# Altium schematic symbol library kmilo17pet-LT_OpAmp_LT1000.SchLib: 2280 symbols (part 47 of 79)
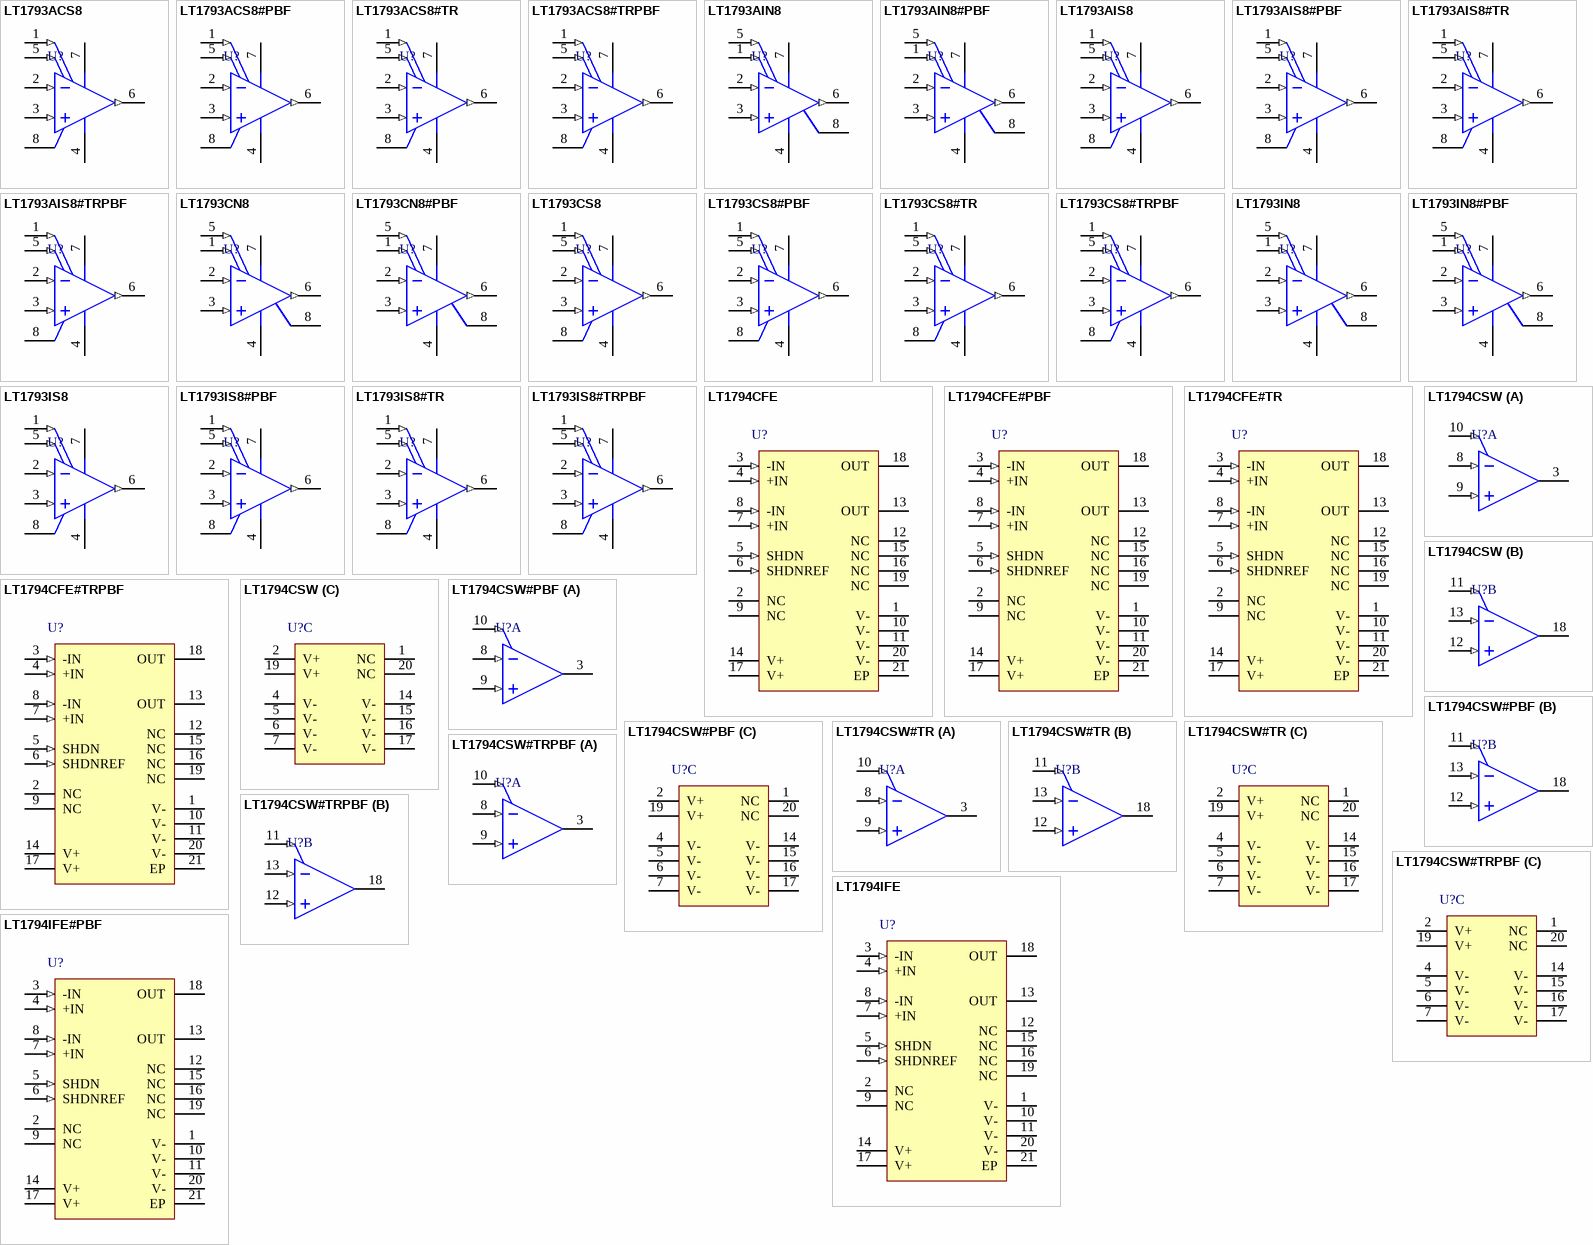
[diagram p151: symbols LT1793ACS8 to LT1794IFE#PBF]

## LT1793AIS8
designator U?
Single Channel, Low Distortion, Low Noise, Precision Operational Amplifier, Picoampere Bias Current, 4.2 MHz Typical GBW, 3.4 V/us Typical SR, 10 to 40 V, 8-Pin SOIC (S8-8), Industrial; Linear Technology Part Number: LT1793; Manufacturer: Linear Technology; PartNumber: LT1793AIS8; Channels (#): 1; GBW (MHz) Typical: 4.2; SR (V/us) Typical: 3.4; Vos (mV) Guaranteed: 0.8; Vos (mV) Typical: 0.25; Vs Max (V): 40; Vs Min (V): 10; PackageVersion: Rev G; PackageReference: LT-S8-8; PackageDescription: 8-Pin Plastic Small Outline, Body 4.9 x 3.9 mm, Pitch 1.27 mm; Supplier 1: Digi-Key; Supplier Part Number 1: LT1793AIS8-ND; Is (mA) Typical: 4.2; Type: JFET; Mounting Technology: Surface Mount; ComponentLink1Description: Manufacturer URL; ComponentLink1URL: http://www.linear.com/; ComponentLink2Description: Datasheet; ComponentLink2URL: http://cds.linear.com/docs/en/datasheet/1793f.pdf; ComponentLink3Description: Package Specification; ComponentLink3URL: http://cds.linear.com/docs/en/packaging/05081610_G_SO8.pdf
footprint LT-S8-8_N (SOIC, 8-Leads, Body 4.9x3.9mm, Pitch 1.27mm, IPC Medium Density)
footprint LT-S8-8_L (SOIC, 8-Leads, Body 4.9x3.9mm, Pitch 1.27mm, IPC High Density)
footprint LT-S8-8_M (SOIC, 8-Leads, Body 4.9x3.9mm, Pitch 1.27mm, IPC Low Density)
pins: 1 VOS ADJ (in), 2 -IN A (in), 3 +IN A (in), 4 V- (power), 5 VOS ADJ (in), 6 OUT (out), 7 V+ (power), 8 NC

## LT1793AIS8#PBF
designator U?
Single Channel, Low Distortion, Low Noise, Precision Operational Amplifier, Picoampere Bias Current, 4.2 MHz Typical GBW, 3.4 V/us Typical SR, 10 to 40 V, 8-Pin SOIC (S8-8), Industrial, Pb-Free; Linear Technology Part Number: LT1793; Manufacturer: Linear Technology; PartNumber: LT1793AIS8#PBF; Channels (#): 1; GBW (MHz) Typical: 4.2; SR (V/us) Typical: 3.4; Vos (mV) Guaranteed: 0.8; Vos (mV) Typical: 0.25; Vs Max (V): 40; Vs Min (V): 10; PackageVersion: Rev G; PackageReference: LT-S8-8; PackageDescription: 8-Pin Plastic Small Outline, Body 4.9 x 3.9 mm, Pitch 1.27 mm; Supplier 1: Digi-Key; Supplier Part Number 1: LT1793AIS8#PBF-ND; Is (mA) Typical: 4.2; RoHS: Pb-Free; Type: JFET; Mounting Technology: Surface Mount; ComponentLink1Description: Manufacturer URL; ComponentLink1URL: http://www.linear.com/; ComponentLink2Description: Datasheet; ComponentLink2URL: http://cds.linear.com/docs/en/datasheet/1793f.pdf; ComponentLink3Description: Package Specification; ComponentLink3URL: http://cds.linear.com/docs/en/packaging/05081610_G_SO8.pdf
footprint LT-S8-8_N (SOIC, 8-Leads, Body 4.9x3.9mm, Pitch 1.27mm, IPC Medium Density)
footprint LT-S8-8_L (SOIC, 8-Leads, Body 4.9x3.9mm, Pitch 1.27mm, IPC High Density)
footprint LT-S8-8_M (SOIC, 8-Leads, Body 4.9x3.9mm, Pitch 1.27mm, IPC Low Density)
pins: 1 VOS ADJ (in), 2 -IN A (in), 3 +IN A (in), 4 V- (power), 5 VOS ADJ (in), 6 OUT (out), 7 V+ (power), 8 NC

## LT1793AIS8#TR
designator U?
Single Channel, Low Distortion, Low Noise, Precision Operational Amplifier, Picoampere Bias Current, 4.2 MHz Typical GBW, 3.4 V/us Typical SR, 10 to 40 V, 8-Pin SOIC (S8-8), Industrial, Reel; Linear Technology Part Number: LT1793; Manufacturer: Linear Technology; PartNumber: LT1793AIS8#TR; Channels (#): 1; GBW (MHz) Typical: 4.2; SR (V/us) Typical: 3.4; Vos (mV) Guaranteed: 0.8; Vos (mV) Typical: 0.25; Vs Max (V): 40; Vs Min (V): 10; PackageVersion: Rev G; PackageReference: LT-S8-8; PackageDescription: 8-Pin Plastic Small Outline, Body 4.9 x 3.9 mm, Pitch 1.27 mm; Supplier 1: Digi-Key; Supplier Part Number 1: LT1793AIS8#TR-ND; Is (mA) Typical: 4.2; Packing: Reel; Type: JFET; Mounting Technology: Surface Mount; ComponentLink1Description: Manufacturer URL; ComponentLink1URL: http://www.linear.com/; ComponentLink2Description: Datasheet; ComponentLink2URL: http://cds.linear.com/docs/en/datasheet/1793f.pdf; ComponentLink3Description: Package Specification; ComponentLink3URL: http://cds.linear.com/docs/en/packaging/05081610_G_SO8.pdf
footprint LT-S8-8_N (SOIC, 8-Leads, Body 4.9x3.9mm, Pitch 1.27mm, IPC Medium Density)
footprint LT-S8-8_L (SOIC, 8-Leads, Body 4.9x3.9mm, Pitch 1.27mm, IPC High Density)
footprint LT-S8-8_M (SOIC, 8-Leads, Body 4.9x3.9mm, Pitch 1.27mm, IPC Low Density)
pins: 1 VOS ADJ (in), 2 -IN A (in), 3 +IN A (in), 4 V- (power), 5 VOS ADJ (in), 6 OUT (out), 7 V+ (power), 8 NC

## LT1793AIS8#TRPBF
designator U?
Single Channel, Low Distortion, Low Noise, Precision Operational Amplifier, Picoampere Bias Current, 4.2 MHz Typical GBW, 3.4 V/us Typical SR, 10 to 40 V, 8-Pin SOIC (S8-8), Industrial, Pb-Free, Reel; Linear Technology Part Number: LT1793; Manufacturer: Linear Technology; PartNumber: LT1793AIS8#TRPBF; Channels (#): 1; GBW (MHz) Typical: 4.2; SR (V/us) Typical: 3.4; Vos (mV) Guaranteed: 0.8; Vos (mV) Typical: 0.25; Vs Max (V): 40; Vs Min (V): 10; PackageVersion: Rev G; PackageReference: LT-S8-8; PackageDescription: 8-Pin Plastic Small Outline, Body 4.9 x 3.9 mm, Pitch 1.27 mm; Supplier 1: Digi-Key; Supplier Part Number 1: LT1793AIS8#TRPBF-ND; Is (mA) Typical: 4.2; Packing: Reel; RoHS: Pb-Free; Type: JFET; Mounting Technology: Surface Mount; ComponentLink1Description: Manufacturer URL; ComponentLink1URL: http://www.linear.com/; ComponentLink2Description: Datasheet; ComponentLink2URL: http://cds.linear.com/docs/en/datasheet/1793f.pdf; ComponentLink3Description: Package Specification; ComponentLink3URL: http://cds.linear.com/docs/en/packaging/05081610_G_SO8.pdf
footprint LT-S8-8_N (SOIC, 8-Leads, Body 4.9x3.9mm, Pitch 1.27mm, IPC Medium Density)
footprint LT-S8-8_L (SOIC, 8-Leads, Body 4.9x3.9mm, Pitch 1.27mm, IPC High Density)
footprint LT-S8-8_M (SOIC, 8-Leads, Body 4.9x3.9mm, Pitch 1.27mm, IPC Low Density)
pins: 1 VOS ADJ (in), 2 -IN A (in), 3 +IN A (in), 4 V- (power), 5 VOS ADJ (in), 6 OUT (out), 7 V+ (power), 8 NC

## LT1793CN8
designator U?
Single Channel, Low Distortion, Low Noise, Precision Operational Amplifier, Picoampere Bias Current, 4.2 MHz Typical GBW, 3.4 V/us Typical SR, 10 to 40 V, 8-Pin DIP (N8-8), Commercial; Linear Technology Part Number: LT1793; Manufacturer: Linear Technology; PartNumber: LT1793CN8; Channels (#): 1; GBW (MHz) Typical: 4.2; SR (V/us) Typical: 3.4; Vos (mV) Guaranteed: 0.8; Vos (mV) Typical: 0.25; Vs Max (V): 40; Vs Min (V): 10; PackageVersion: Rev I; PackageReference: LT-N8-8; PackageDescription: 8-Lead PDIP, Body 10.16 x 6.48 mm, Pitch 2.54 mm; Supplier 1: Digi-Key; Supplier Part Number 1: LT1793CN8-ND; Is (mA) Typical: 4.2; Type: JFET; Mounting Technology: Surface Mount; ComponentLink1Description: Manufacturer URL; ComponentLink1URL: http://www.linear.com/; ComponentLink2Description: Datasheet; ComponentLink2URL: http://cds.linear.com/docs/en/datasheet/1793f.pdf; ComponentLink3Description: Package Specification; ComponentLink3URL: http://cds.linear.com/docs/en/packaging/05081510_I_N8.pdf
footprint LT-N8-8 (DIP, 8-Leads, Body 10.16x6.48mm, Pitch 2.54mm)
pins: 1 VOS ADJ (in), 2 -IN A (in), 3 +IN A (in), 4 V- (power), 5 VOS ADJ (in), 6 OUT (out), 7 V+ (power), 8 NC

## LT1793CN8#PBF
designator U?
Single Channel, Low Distortion, Low Noise, Precision Operational Amplifier, Picoampere Bias Current, 4.2 MHz Typical GBW, 3.4 V/us Typical SR, 10 to 40 V, 8-Pin DIP (N8-8), Commercial, Pb-Free; Linear Technology Part Number: LT1793; Manufacturer: Linear Technology; PartNumber: LT1793CN8#PBF; Channels (#): 1; GBW (MHz) Typical: 4.2; SR (V/us) Typical: 3.4; Vos (mV) Guaranteed: 0.8; Vos (mV) Typical: 0.25; Vs Max (V): 40; Vs Min (V): 10; PackageVersion: Rev I; PackageReference: LT-N8-8; PackageDescription: 8-Lead PDIP, Body 10.16 x 6.48 mm, Pitch 2.54 mm; Supplier 1: Digi-Key; Supplier Part Number 1: LT1793CN8#PBF-ND; Is (mA) Typical: 4.2; RoHS: Pb-Free; Type: JFET; Mounting Technology: Through Hole; ComponentLink1Description: Manufacturer URL; ComponentLink1URL: http://www.linear.com/; ComponentLink2Description: Datasheet; ComponentLink2URL: http://cds.linear.com/docs/en/datasheet/1793f.pdf; ComponentLink3Description: Package Specification; ComponentLink3URL: http://cds.linear.com/docs/en/packaging/05081510_I_N8.pdf
footprint LT-N8-8 (DIP, 8-Leads, Body 10.16x6.48mm, Pitch 2.54mm)
pins: 1 VOS ADJ (in), 2 -IN A (in), 3 +IN A (in), 4 V- (power), 5 VOS ADJ (in), 6 OUT (out), 7 V+ (power), 8 NC

## LT1793CS8
designator U?
Single Channel, Low Distortion, Low Noise, Precision Operational Amplifier, Picoampere Bias Current, 4.2 MHz Typical GBW, 3.4 V/us Typical SR, 10 to 40 V, 8-Pin SOIC (S8-8), Commercial; Linear Technology Part Number: LT1793; Manufacturer: Linear Technology; PartNumber: LT1793CS8; Channels (#): 1; GBW (MHz) Typical: 4.2; SR (V/us) Typical: 3.4; Vos (mV) Guaranteed: 0.8; Vos (mV) Typical: 0.25; Vs Max (V): 40; Vs Min (V): 10; PackageVersion: Rev G; PackageReference: LT-S8-8; PackageDescription: 8-Pin Plastic Small Outline, Body 4.9 x 3.9 mm, Pitch 1.27 mm; Supplier 1: Digi-Key; Supplier Part Number 1: LT1793CS8-ND; Is (mA) Typical: 4.2; Type: JFET; Mounting Technology: Surface Mount; ComponentLink1Description: Manufacturer URL; ComponentLink1URL: http://www.linear.com/; ComponentLink2Description: Datasheet; ComponentLink2URL: http://cds.linear.com/docs/en/datasheet/1793f.pdf; ComponentLink3Description: Package Specification; ComponentLink3URL: http://cds.linear.com/docs/en/packaging/05081610_G_SO8.pdf
footprint LT-S8-8_N (SOIC, 8-Leads, Body 4.9x3.9mm, Pitch 1.27mm, IPC Medium Density)
footprint LT-S8-8_L (SOIC, 8-Leads, Body 4.9x3.9mm, Pitch 1.27mm, IPC High Density)
footprint LT-S8-8_M (SOIC, 8-Leads, Body 4.9x3.9mm, Pitch 1.27mm, IPC Low Density)
pins: 1 VOS ADJ (in), 2 -IN A (in), 3 +IN A (in), 4 V- (power), 5 VOS ADJ (in), 6 OUT (out), 7 V+ (power), 8 NC

## LT1793CS8#PBF
designator U?
Single Channel, Low Distortion, Low Noise, Precision Operational Amplifier, Picoampere Bias Current, 4.2 MHz Typical GBW, 3.4 V/us Typical SR, 10 to 40 V, 8-Pin SOIC (S8-8), Commercial, Pb-Free; Linear Technology Part Number: LT1793; Manufacturer: Linear Technology; PartNumber: LT1793CS8#PBF; Channels (#): 1; GBW (MHz) Typical: 4.2; SR (V/us) Typical: 3.4; Vos (mV) Guaranteed: 0.8; Vos (mV) Typical: 0.25; Vs Max (V): 40; Vs Min (V): 10; PackageVersion: Rev G; PackageReference: LT-S8-8; PackageDescription: 8-Pin Plastic Small Outline, Body 4.9 x 3.9 mm, Pitch 1.27 mm; Supplier 1: Digi-Key; Supplier Part Number 1: LT1793CS8#PBF-ND; Supplier 2: Farnell; Supplier Part Number 2: 1330699; Supplier 3: Newark; Supplier Part Number 3: 57M6661; Is (mA) Typical: 4.2; RoHS: Pb-Free; Type: JFET; Mounting Technology: Surface Mount; ComponentLink1Description: Manufacturer URL; ComponentLink1URL: http://www.linear.com/; ComponentLink2Description: Datasheet; ComponentLink2URL: http://cds.linear.com/docs/en/datasheet/1793f.pdf; ComponentLink3Description: Package Specification; ComponentLink3URL: http://cds.linear.com/docs/en/packaging/05081610_G_SO8.pdf
footprint LT-S8-8_N (SOIC, 8-Leads, Body 4.9x3.9mm, Pitch 1.27mm, IPC Medium Density)
footprint LT-S8-8_L (SOIC, 8-Leads, Body 4.9x3.9mm, Pitch 1.27mm, IPC High Density)
footprint LT-S8-8_M (SOIC, 8-Leads, Body 4.9x3.9mm, Pitch 1.27mm, IPC Low Density)
pins: 1 VOS ADJ (in), 2 -IN A (in), 3 +IN A (in), 4 V- (power), 5 VOS ADJ (in), 6 OUT (out), 7 V+ (power), 8 NC

## LT1793CS8#TR
designator U?
Single Channel, Low Distortion, Low Noise, Precision Operational Amplifier, Picoampere Bias Current, 4.2 MHz Typical GBW, 3.4 V/us Typical SR, 10 to 40 V, 8-Pin SOIC (S8-8), Commercial, Reel; Linear Technology Part Number: LT1793; Manufacturer: Linear Technology; PartNumber: LT1793CS8#TR; Channels (#): 1; GBW (MHz) Typical: 4.2; SR (V/us) Typical: 3.4; Vos (mV) Guaranteed: 0.8; Vos (mV) Typical: 0.25; Vs Max (V): 40; Vs Min (V): 10; PackageVersion: Rev G; PackageReference: LT-S8-8; PackageDescription: 8-Pin Plastic Small Outline, Body 4.9 x 3.9 mm, Pitch 1.27 mm; Supplier 1: Digi-Key; Supplier Part Number 1: LT1793CS8#TR-ND; Is (mA) Typical: 4.2; Packing: Reel; Type: JFET; Mounting Technology: Surface Mount; ComponentLink1Description: Manufacturer URL; ComponentLink1URL: http://www.linear.com/; ComponentLink2Description: Datasheet; ComponentLink2URL: http://cds.linear.com/docs/en/datasheet/1793f.pdf; ComponentLink3Description: Package Specification; ComponentLink3URL: http://cds.linear.com/docs/en/packaging/05081610_G_SO8.pdf
footprint LT-S8-8_N (SOIC, 8-Leads, Body 4.9x3.9mm, Pitch 1.27mm, IPC Medium Density)
footprint LT-S8-8_L (SOIC, 8-Leads, Body 4.9x3.9mm, Pitch 1.27mm, IPC High Density)
footprint LT-S8-8_M (SOIC, 8-Leads, Body 4.9x3.9mm, Pitch 1.27mm, IPC Low Density)
pins: 1 VOS ADJ (in), 2 -IN A (in), 3 +IN A (in), 4 V- (power), 5 VOS ADJ (in), 6 OUT (out), 7 V+ (power), 8 NC

## LT1793CS8#TRPBF
designator U?
Single Channel, Low Distortion, Low Noise, Precision Operational Amplifier, Picoampere Bias Current, 4.2 MHz Typical GBW, 3.4 V/us Typical SR, 10 to 40 V, 8-Pin SOIC (S8-8), Commercial, Pb-Free, Reel; Linear Technology Part Number: LT1793; Manufacturer: Linear Technology; PartNumber: LT1793CS8#TRPBF; Channels (#): 1; GBW (MHz) Typical: 4.2; SR (V/us) Typical: 3.4; Vos (mV) Guaranteed: 0.8; Vos (mV) Typical: 0.25; Vs Max (V): 40; Vs Min (V): 10; PackageVersion: Rev G; PackageReference: LT-S8-8; PackageDescription: 8-Pin Plastic Small Outline, Body 4.9 x 3.9 mm, Pitch 1.27 mm; Supplier 1: Digi-Key; Supplier Part Number 1: LT1793CS8#TRPBF-ND; Is (mA) Typical: 4.2; Packing: Reel; RoHS: Pb-Free; Type: JFET; Mounting Technology: Surface Mount; ComponentLink1Description: Manufacturer URL; ComponentLink1URL: http://www.linear.com/; ComponentLink2Description: Datasheet; ComponentLink2URL: http://cds.linear.com/docs/en/datasheet/1793f.pdf; ComponentLink3Description: Package Specification; ComponentLink3URL: http://cds.linear.com/docs/en/packaging/05081610_G_SO8.pdf
footprint LT-S8-8_N (SOIC, 8-Leads, Body 4.9x3.9mm, Pitch 1.27mm, IPC Medium Density)
footprint LT-S8-8_L (SOIC, 8-Leads, Body 4.9x3.9mm, Pitch 1.27mm, IPC High Density)
footprint LT-S8-8_M (SOIC, 8-Leads, Body 4.9x3.9mm, Pitch 1.27mm, IPC Low Density)
pins: 1 VOS ADJ (in), 2 -IN A (in), 3 +IN A (in), 4 V- (power), 5 VOS ADJ (in), 6 OUT (out), 7 V+ (power), 8 NC

## LT1793IN8
designator U?
Single Channel, Low Distortion, Low Noise, Precision Operational Amplifier, Picoampere Bias Current, 4.2 MHz Typical GBW, 3.4 V/us Typical SR, 10 to 40 V, 8-Pin DIP (N8-8), Industrial; Linear Technology Part Number: LT1793; Manufacturer: Linear Technology; PartNumber: LT1793IN8; Channels (#): 1; GBW (MHz) Typical: 4.2; SR (V/us) Typical: 3.4; Vos (mV) Guaranteed: 0.8; Vos (mV) Typical: 0.25; Vs Max (V): 40; Vs Min (V): 10; PackageVersion: Rev I; PackageReference: LT-N8-8; PackageDescription: 8-Lead PDIP, Body 10.16 x 6.48 mm, Pitch 2.54 mm; Supplier 1: Digi-Key; Supplier Part Number 1: LT1793IN8-ND; Is (mA) Typical: 4.2; Type: JFET; Mounting Technology: Surface Mount; ComponentLink1Description: Manufacturer URL; ComponentLink1URL: http://www.linear.com/; ComponentLink2Description: Datasheet; ComponentLink2URL: http://cds.linear.com/docs/en/datasheet/1793f.pdf; ComponentLink3Description: Package Specification; ComponentLink3URL: http://cds.linear.com/docs/en/packaging/05081510_I_N8.pdf
footprint LT-N8-8 (DIP, 8-Leads, Body 10.16x6.48mm, Pitch 2.54mm)
pins: 1 VOS ADJ (in), 2 -IN A (in), 3 +IN A (in), 4 V- (power), 5 VOS ADJ (in), 6 OUT (out), 7 V+ (power), 8 NC

## LT1793IN8#PBF
designator U?
Single Channel, Low Distortion, Low Noise, Precision Operational Amplifier, Picoampere Bias Current, 4.2 MHz Typical GBW, 3.4 V/us Typical SR, 10 to 40 V, 8-Pin DIP (N8-8), Industrial, Pb-Free; Linear Technology Part Number: LT1793; Manufacturer: Linear Technology; PartNumber: LT1793IN8#PBF; Channels (#): 1; GBW (MHz) Typical: 4.2; SR (V/us) Typical: 3.4; Vos (mV) Guaranteed: 0.8; Vos (mV) Typical: 0.25; Vs Max (V): 40; Vs Min (V): 10; PackageVersion: Rev I; PackageReference: LT-N8-8; PackageDescription: 8-Lead PDIP, Body 10.16 x 6.48 mm, Pitch 2.54 mm; Supplier 1: Digi-Key; Supplier Part Number 1: LT1793IN8#PBF-ND; Is (mA) Typical: 4.2; RoHS: Pb-Free; Type: JFET; Mounting Technology: Through Hole; ComponentLink1Description: Manufacturer URL; ComponentLink1URL: http://www.linear.com/; ComponentLink2Description: Datasheet; ComponentLink2URL: http://cds.linear.com/docs/en/datasheet/1793f.pdf; ComponentLink3Description: Package Specification; ComponentLink3URL: http://cds.linear.com/docs/en/packaging/05081510_I_N8.pdf
footprint LT-N8-8 (DIP, 8-Leads, Body 10.16x6.48mm, Pitch 2.54mm)
pins: 1 VOS ADJ (in), 2 -IN A (in), 3 +IN A (in), 4 V- (power), 5 VOS ADJ (in), 6 OUT (out), 7 V+ (power), 8 NC

## LT1793IS8
designator U?
Single Channel, Low Distortion, Low Noise, Precision Operational Amplifier, Picoampere Bias Current, 4.2 MHz Typical GBW, 3.4 V/us Typical SR, 10 to 40 V, 8-Pin SOIC (S8-8), Industrial; Linear Technology Part Number: LT1793; Manufacturer: Linear Technology; PartNumber: LT1793IS8; Channels (#): 1; GBW (MHz) Typical: 4.2; SR (V/us) Typical: 3.4; Vos (mV) Guaranteed: 0.8; Vos (mV) Typical: 0.25; Vs Max (V): 40; Vs Min (V): 10; PackageVersion: Rev G; PackageReference: LT-S8-8; PackageDescription: 8-Pin Plastic Small Outline, Body 4.9 x 3.9 mm, Pitch 1.27 mm; Supplier 1: Digi-Key; Supplier Part Number 1: LT1793IS8-ND; Is (mA) Typical: 4.2; Type: JFET; Mounting Technology: Surface Mount; ComponentLink1Description: Manufacturer URL; ComponentLink1URL: http://www.linear.com/; ComponentLink2Description: Datasheet; ComponentLink2URL: http://cds.linear.com/docs/en/datasheet/1793f.pdf; ComponentLink3Description: Package Specification; ComponentLink3URL: http://cds.linear.com/docs/en/packaging/05081610_G_SO8.pdf
footprint LT-S8-8_N (SOIC, 8-Leads, Body 4.9x3.9mm, Pitch 1.27mm, IPC Medium Density)
footprint LT-S8-8_L (SOIC, 8-Leads, Body 4.9x3.9mm, Pitch 1.27mm, IPC High Density)
footprint LT-S8-8_M (SOIC, 8-Leads, Body 4.9x3.9mm, Pitch 1.27mm, IPC Low Density)
pins: 1 VOS ADJ (in), 2 -IN A (in), 3 +IN A (in), 4 V- (power), 5 VOS ADJ (in), 6 OUT (out), 7 V+ (power), 8 NC

## LT1793IS8#PBF
designator U?
Single Channel, Low Distortion, Low Noise, Precision Operational Amplifier, Picoampere Bias Current, 4.2 MHz Typical GBW, 3.4 V/us Typical SR, 10 to 40 V, 8-Pin SOIC (S8-8), Industrial, Pb-Free; Linear Technology Part Number: LT1793; Manufacturer: Linear Technology; PartNumber: LT1793IS8#PBF; Channels (#): 1; GBW (MHz) Typical: 4.2; SR (V/us) Typical: 3.4; Vos (mV) Guaranteed: 0.8; Vos (mV) Typical: 0.25; Vs Max (V): 40; Vs Min (V): 10; PackageVersion: Rev G; PackageReference: LT-S8-8; PackageDescription: 8-Pin Plastic Small Outline, Body 4.9 x 3.9 mm, Pitch 1.27 mm; Supplier 1: Digi-Key; Supplier Part Number 1: LT1793IS8#PBF-ND; Is (mA) Typical: 4.2; RoHS: Pb-Free; Type: JFET; Mounting Technology: Surface Mount; ComponentLink1Description: Manufacturer URL; ComponentLink1URL: http://www.linear.com/; ComponentLink2Description: Datasheet; ComponentLink2URL: http://cds.linear.com/docs/en/datasheet/1793f.pdf; ComponentLink3Description: Package Specification; ComponentLink3URL: http://cds.linear.com/docs/en/packaging/05081610_G_SO8.pdf
footprint LT-S8-8_N (SOIC, 8-Leads, Body 4.9x3.9mm, Pitch 1.27mm, IPC Medium Density)
footprint LT-S8-8_L (SOIC, 8-Leads, Body 4.9x3.9mm, Pitch 1.27mm, IPC High Density)
footprint LT-S8-8_M (SOIC, 8-Leads, Body 4.9x3.9mm, Pitch 1.27mm, IPC Low Density)
pins: 1 VOS ADJ (in), 2 -IN A (in), 3 +IN A (in), 4 V- (power), 5 VOS ADJ (in), 6 OUT (out), 7 V+ (power), 8 NC

## LT1793IS8#TR
designator U?
Single Channel, Low Distortion, Low Noise, Precision Operational Amplifier, Picoampere Bias Current, 4.2 MHz Typical GBW, 3.4 V/us Typical SR, 10 to 40 V, 8-Pin SOIC (S8-8), Industrial, Reel; Linear Technology Part Number: LT1793; Manufacturer: Linear Technology; PartNumber: LT1793IS8#TR; Channels (#): 1; GBW (MHz) Typical: 4.2; SR (V/us) Typical: 3.4; Vos (mV) Guaranteed: 0.8; Vos (mV) Typical: 0.25; Vs Max (V): 40; Vs Min (V): 10; PackageVersion: Rev G; PackageReference: LT-S8-8; PackageDescription: 8-Pin Plastic Small Outline, Body 4.9 x 3.9 mm, Pitch 1.27 mm; Supplier 1: Digi-Key; Supplier Part Number 1: LT1793IS8#TR-ND; Is (mA) Typical: 4.2; Packing: Reel; Type: JFET; Mounting Technology: Surface Mount; ComponentLink1Description: Manufacturer URL; ComponentLink1URL: http://www.linear.com/; ComponentLink2Description: Datasheet; ComponentLink2URL: http://cds.linear.com/docs/en/datasheet/1793f.pdf; ComponentLink3Description: Package Specification; ComponentLink3URL: http://cds.linear.com/docs/en/packaging/05081610_G_SO8.pdf
footprint LT-S8-8_N (SOIC, 8-Leads, Body 4.9x3.9mm, Pitch 1.27mm, IPC Medium Density)
footprint LT-S8-8_L (SOIC, 8-Leads, Body 4.9x3.9mm, Pitch 1.27mm, IPC High Density)
footprint LT-S8-8_M (SOIC, 8-Leads, Body 4.9x3.9mm, Pitch 1.27mm, IPC Low Density)
pins: 1 VOS ADJ (in), 2 -IN A (in), 3 +IN A (in), 4 V- (power), 5 VOS ADJ (in), 6 OUT (out), 7 V+ (power), 8 NC

## LT1793IS8#TRPBF
designator U?
Single Channel, Low Distortion, Low Noise, Precision Operational Amplifier, Picoampere Bias Current, 4.2 MHz Typical GBW, 3.4 V/us Typical SR, 10 to 40 V, 8-Pin SOIC (S8-8), Industrial, Pb-Free, Reel; Linear Technology Part Number: LT1793; Manufacturer: Linear Technology; PartNumber: LT1793IS8#TRPBF; Channels (#): 1; GBW (MHz) Typical: 4.2; SR (V/us) Typical: 3.4; Vos (mV) Guaranteed: 0.8; Vos (mV) Typical: 0.25; Vs Max (V): 40; Vs Min (V): 10; PackageVersion: Rev G; PackageReference: LT-S8-8; PackageDescription: 8-Pin Plastic Small Outline, Body 4.9 x 3.9 mm, Pitch 1.27 mm; Supplier 1: Digi-Key; Supplier Part Number 1: LT1793IS8#TRPBF-ND; Is (mA) Typical: 4.2; Packing: Reel; RoHS: Pb-Free; Type: JFET; Mounting Technology: Surface Mount; ComponentLink1Description: Manufacturer URL; ComponentLink1URL: http://www.linear.com/; ComponentLink2Description: Datasheet; ComponentLink2URL: http://cds.linear.com/docs/en/datasheet/1793f.pdf; ComponentLink3Description: Package Specification; ComponentLink3URL: http://cds.linear.com/docs/en/packaging/05081610_G_SO8.pdf
footprint LT-S8-8_N (SOIC, 8-Leads, Body 4.9x3.9mm, Pitch 1.27mm, IPC Medium Density)
footprint LT-S8-8_L (SOIC, 8-Leads, Body 4.9x3.9mm, Pitch 1.27mm, IPC High Density)
footprint LT-S8-8_M (SOIC, 8-Leads, Body 4.9x3.9mm, Pitch 1.27mm, IPC Low Density)
pins: 1 VOS ADJ (in), 2 -IN A (in), 3 +IN A (in), 4 V- (power), 5 VOS ADJ (in), 6 OUT (out), 7 V+ (power), 8 NC

## LT1794CFE
designator U?
Dual Channel, 500mA, 200MHz xDSL Line Driver Amplifier, 200 MHz Typical GBW, 600 V/us Typical SR, 8 to 36 V, 20-Pin SOP (FE-20), Commercial; Linear Technology Part Number: LT1794; Manufacturer: Linear Technology; PartNumber: LT1794CFE; Channels (#): 2; GBW (MHz) Typical: 200; Is (mA) Typical: 10; SR (V/us) Typical: 600; Vos (mV) Guaranteed: 5; Vos (mV) Typical: 1; Vs Max (V): 36; Vs Min (V): 8; PackageVersion: Rev I; PackageReference: LT-FE-20-EPV-CA; PackageDescription: 20-Lead Plastic TSSOP, Body 6.50 x 4.40 mm, Pitch 0.65 mm; Supplier 1: Digi-Key; Supplier Part Number 1: LT1794CFE-ND; Type: VFB; Mounting Technology: Surface Mount; ComponentLink1Description: Manufacturer URL; ComponentLink1URL: http://www.linear.com/; ComponentLink2Description: Datasheet; ComponentLink2URL: http://cds.linear.com/docs/en/datasheet/1794fs.pdf; ComponentLink3Description: Package Specification; ComponentLink3URL: http://cds.linear.com/docs/en/packaging/05081663_I_FE20%28CA%29.pdf
footprint LT-FE-20-EPV-CA_N (SOP, 20-Leads, Body 6.5x4.4mm, Pitch 0.65mm, Thermal Pad 4.95 x 2.74mm, IPC Medium Density)
footprint LT-FE-20-EPV-CA_L (SOP, 20-Leads, Body 6.5x4.4mm, Pitch 0.65mm, Thermal Pad 4.95 x 2.74mm, IPC High Density)
footprint LT-FE-20-EPV-CA_M (SOP, 20-Leads, Body 6.5x4.4mm, Pitch 0.65mm, Thermal Pad 4.95 x2.74mm, IPC Low Density)
pins: 1 V- (power), 2 NC, 3 -IN (in), 4 +IN (in), 5 SHDN (in), 6 SHDNREF (in), 7 +IN (in), 8 -IN (in), 9 NC, 10 V- (power), 11 V- (power), 12 NC, 13 OUT (hiz), 14 V+ (power), 15 NC, 16 NC, 17 V+ (power), 18 OUT (hiz), 19 NC, 20 V- (power), 21 EP (power)

## LT1794CFE#PBF
designator U?
Dual Channel, 500mA, 200MHz xDSL Line Driver Amplifier, 200 MHz Typical GBW, 600 V/us Typical SR, 8 to 36 V, 20-Pin SOP (FE-20), Commercial, Pb-Free; Linear Technology Part Number: LT1794; Manufacturer: Linear Technology; PartNumber: LT1794CFE#PBF; Channels (#): 2; GBW (MHz) Typical: 200; Is (mA) Typical: 10; SR (V/us) Typical: 600; Vos (mV) Guaranteed: 5; Vos (mV) Typical: 1; Vs Max (V): 36; Vs Min (V): 8; PackageVersion: Rev I; PackageReference: LT-FE-20-EPV-CA; PackageDescription: 20-Lead Plastic TSSOP, Body 6.50 x 4.40 mm, Pitch 0.65 mm; Supplier 1: Digi-Key; Supplier Part Number 1: LT1794CFE#PBF-ND; Supplier 2: Newark; Supplier Part Number 2: 57M6671; RoHS: Pb-Free; Type: VFB; Mounting Technology: Surface Mount; ComponentLink1Description: Manufacturer URL; ComponentLink1URL: http://www.linear.com/; ComponentLink2Description: Datasheet; ComponentLink2URL: http://cds.linear.com/docs/en/datasheet/1794fs.pdf; ComponentLink3Description: Package Specification; ComponentLink3URL: http://cds.linear.com/docs/en/packaging/05081663_I_FE20%28CA%29.pdf
footprint LT-FE-20-EPV-CA_N (SOP, 20-Leads, Body 6.5x4.4mm, Pitch 0.65mm, Thermal Pad 4.95 x 2.74mm, IPC Medium Density)
footprint LT-FE-20-EPV-CA_L (SOP, 20-Leads, Body 6.5x4.4mm, Pitch 0.65mm, Thermal Pad 4.95 x 2.74mm, IPC High Density)
footprint LT-FE-20-EPV-CA_M (SOP, 20-Leads, Body 6.5x4.4mm, Pitch 0.65mm, Thermal Pad 4.95 x2.74mm, IPC Low Density)
pins: 1 V- (power), 2 NC, 3 -IN (in), 4 +IN (in), 5 SHDN (in), 6 SHDNREF (in), 7 +IN (in), 8 -IN (in), 9 NC, 10 V- (power), 11 V- (power), 12 NC, 13 OUT (hiz), 14 V+ (power), 15 NC, 16 NC, 17 V+ (power), 18 OUT (hiz), 19 NC, 20 V- (power), 21 EP (power)

## LT1794CFE#TR
designator U?
Dual Channel, 500mA, 200MHz xDSL Line Driver Amplifier, 200 MHz Typical GBW, 600 V/us Typical SR, 8 to 36 V, 20-Pin SOP (FE-20), Commercial, Reel; Linear Technology Part Number: LT1794; Manufacturer: Linear Technology; PartNumber: LT1794CFE#TR; Channels (#): 2; GBW (MHz) Typical: 200; Is (mA) Typical: 10; SR (V/us) Typical: 600; Vos (mV) Guaranteed: 5; Vos (mV) Typical: 1; Vs Max (V): 36; Vs Min (V): 8; PackageVersion: Rev I; PackageReference: LT-FE-20-EPV-CA; PackageDescription: 20-Lead Plastic TSSOP, Body 6.50 x 4.40 mm, Pitch 0.65 mm; Supplier 1: Digi-Key; Supplier Part Number 1: LT1794CFETR-ND; Packing: Reel; Type: VFB; Mounting Technology: Surface Mount; ComponentLink1Description: Manufacturer URL; ComponentLink1URL: http://www.linear.com/; ComponentLink2Description: Datasheet; ComponentLink2URL: http://cds.linear.com/docs/en/datasheet/1794fs.pdf; ComponentLink3Description: Package Specification; ComponentLink3URL: http://cds.linear.com/docs/en/packaging/05081663_I_FE20%28CA%29.pdf
footprint LT-FE-20-EPV-CA_N (SOP, 20-Leads, Body 6.5x4.4mm, Pitch 0.65mm, Thermal Pad 4.95 x 2.74mm, IPC Medium Density)
footprint LT-FE-20-EPV-CA_L (SOP, 20-Leads, Body 6.5x4.4mm, Pitch 0.65mm, Thermal Pad 4.95 x 2.74mm, IPC High Density)
footprint LT-FE-20-EPV-CA_M (SOP, 20-Leads, Body 6.5x4.4mm, Pitch 0.65mm, Thermal Pad 4.95 x2.74mm, IPC Low Density)
pins: 1 V- (power), 2 NC, 3 -IN (in), 4 +IN (in), 5 SHDN (in), 6 SHDNREF (in), 7 +IN (in), 8 -IN (in), 9 NC, 10 V- (power), 11 V- (power), 12 NC, 13 OUT (hiz), 14 V+ (power), 15 NC, 16 NC, 17 V+ (power), 18 OUT (hiz), 19 NC, 20 V- (power), 21 EP (power)

## LT1794CFE#TRPBF
designator U?
Dual Channel, 500mA, 200MHz xDSL Line Driver Amplifier, 200 MHz Typical GBW, 600 V/us Typical SR, 8 to 36 V, 20-Pin SOP (FE-20), Commercial, Pb-Free, Reel; Linear Technology Part Number: LT1794; Manufacturer: Linear Technology; PartNumber: LT1794CFE#TRPBF; Channels (#): 2; GBW (MHz) Typical: 200; Is (mA) Typical: 10; SR (V/us) Typical: 600; Vos (mV) Guaranteed: 5; Vos (mV) Typical: 1; Vs Max (V): 36; Vs Min (V): 8; PackageVersion: Rev I; PackageReference: LT-FE-20-EPV-CA; PackageDescription: 20-Lead Plastic TSSOP, Body 6.50 x 4.40 mm, Pitch 0.65 mm; Supplier 1: Digi-Key; Supplier Part Number 1: LT1794CFE#TRPBF-ND; Packing: Reel; RoHS: Pb-Free; Type: VFB; Mounting Technology: Surface Mount; ComponentLink1Description: Manufacturer URL; ComponentLink1URL: http://www.linear.com/; ComponentLink2Description: Datasheet; ComponentLink2URL: http://cds.linear.com/docs/en/datasheet/1794fs.pdf; ComponentLink3Description: Package Specification; ComponentLink3URL: http://cds.linear.com/docs/en/packaging/05081663_I_FE20%28CA%29.pdf
footprint LT-FE-20-EPV-CA_N (SOP, 20-Leads, Body 6.5x4.4mm, Pitch 0.65mm, Thermal Pad 4.95 x 2.74mm, IPC Medium Density)
footprint LT-FE-20-EPV-CA_L (SOP, 20-Leads, Body 6.5x4.4mm, Pitch 0.65mm, Thermal Pad 4.95 x 2.74mm, IPC High Density)
footprint LT-FE-20-EPV-CA_M (SOP, 20-Leads, Body 6.5x4.4mm, Pitch 0.65mm, Thermal Pad 4.95 x2.74mm, IPC Low Density)
pins: 1 V- (power), 2 NC, 3 -IN (in), 4 +IN (in), 5 SHDN (in), 6 SHDNREF (in), 7 +IN (in), 8 -IN (in), 9 NC, 10 V- (power), 11 V- (power), 12 NC, 13 OUT (hiz), 14 V+ (power), 15 NC, 16 NC, 17 V+ (power), 18 OUT (hiz), 19 NC, 20 V- (power), 21 EP (power)

## LT1794CSW
designator U?
Dual Channel, 500mA, 200MHz xDSL Line Driver Amplifier, 200 MHz Typical GBW, 600 V/us Typical SR, 8 to 36 V, 20-Pin SOIC (SW-20), Commercial; Linear Technology Part Number: LT1794; Manufacturer: Linear Technology; PartNumber: LT1794CSW; Channels (#): 2; GBW (MHz) Typical: 200; Is (mA) Typical: 10; SR (V/us) Typical: 600; Vos (mV) Guaranteed: 5; Vos (mV) Typical: 1; Vs Max (V): 36; Vs Min (V): 8; PackageReference: LT-SW-20; PackageDescription: 20-Lead Plastic Small Outline, Body 12.80 x 7.49 mm, Pitch 1.27 mm; Supplier 1: Digi-Key; Supplier Part Number 1: LT1794CSW-ND; Type: VFB; Mounting Technology: Surface Mount; ComponentLink1Description: Manufacturer URL; ComponentLink1URL: http://www.linear.com/; ComponentLink2Description: Datasheet; ComponentLink2URL: http://cds.linear.com/docs/en/datasheet/1794fs.pdf; ComponentLink3Description: Package Specification; ComponentLink3URL: http://cds.linear.com/docs/en/packaging/SO_16_05-08-1620.pdf
footprint LT-SW-20_N (SOIC, 20-Leads, Body 12.8x7.49mm, Pitch 1.27mm, IPC Medium Density)
footprint LT-SW-20_L (SOIC, 20-Leads, Body 12.8x7.49mm, Pitch 1.27mm, IPC High Density)
footprint LT-SW-20_M (SOIC, 20-Leads, Body 12.8x7.49mm, Pitch 1.27mm, IPC Low Density)
part A pins: 3 OUT (hiz), 8 -IN (in), 9 +IN (in), 10 SHDN (in)
part B pins: 11 SHDNREF (in), 12 +IN (in), 13 -IN (in), 18 OUT (hiz)
part C pins: 1 NC, 2 V+ (power), 4 V- (power), 5 V- (power), 6 V- (power), 7 V- (power), 14 V- (power), 15 V- (power), 16 V- (power), 17 V- (power), 19 V+ (power), 20 NC

## LT1794CSW#PBF
designator U?
Dual Channel, 500mA, 200MHz xDSL Line Driver Amplifier, 200 MHz Typical GBW, 600 V/us Typical SR, 8 to 36 V, 20-Pin SOIC (SW-20), Commercial, Pb-Free; Linear Technology Part Number: LT1794; Manufacturer: Linear Technology; PartNumber: LT1794CSW#PBF; Channels (#): 2; GBW (MHz) Typical: 200; Is (mA) Typical: 10; SR (V/us) Typical: 600; Vos (mV) Guaranteed: 5; Vos (mV) Typical: 1; Vs Max (V): 36; Vs Min (V): 8; PackageReference: LT-SW-20; PackageDescription: 20-Lead Plastic Small Outline, Body 12.80 x 7.49 mm, Pitch 1.27 mm; Supplier 1: Digi-Key; Supplier Part Number 1: LT1794CSW#PBF-ND; RoHS: Pb-Free; Type: VFB; Mounting Technology: Surface Mount; ComponentLink1Description: Manufacturer URL; ComponentLink1URL: http://www.linear.com/; ComponentLink2Description: Datasheet; ComponentLink2URL: http://cds.linear.com/docs/en/datasheet/1794fs.pdf; ComponentLink3Description: Package Specification; ComponentLink3URL: http://cds.linear.com/docs/en/packaging/SO_16_05-08-1620.pdf
footprint LT-SW-20_N (SOIC, 20-Leads, Body 12.8x7.49mm, Pitch 1.27mm, IPC Medium Density)
footprint LT-SW-20_L (SOIC, 20-Leads, Body 12.8x7.49mm, Pitch 1.27mm, IPC High Density)
footprint LT-SW-20_M (SOIC, 20-Leads, Body 12.8x7.49mm, Pitch 1.27mm, IPC Low Density)
part A pins: 3 OUT (hiz), 8 -IN (in), 9 +IN (in), 10 SHDN (in)
part B pins: 11 SHDNREF (in), 12 +IN (in), 13 -IN (in), 18 OUT (hiz)
part C pins: 1 NC, 2 V+ (power), 4 V- (power), 5 V- (power), 6 V- (power), 7 V- (power), 14 V- (power), 15 V- (power), 16 V- (power), 17 V- (power), 19 V+ (power), 20 NC

## LT1794CSW#TR
designator U?
Dual Channel, 500mA, 200MHz xDSL Line Driver Amplifier, 200 MHz Typical GBW, 600 V/us Typical SR, 8 to 36 V, 20-Pin SOIC (SW-20), Commercial, Reel; Linear Technology Part Number: LT1794; Manufacturer: Linear Technology; PartNumber: LT1794CSW#TR; Channels (#): 2; GBW (MHz) Typical: 200; Is (mA) Typical: 10; SR (V/us) Typical: 600; Vos (mV) Guaranteed: 5; Vos (mV) Typical: 1; Vs Max (V): 36; Vs Min (V): 8; PackageReference: LT-SW-20; PackageDescription: 20-Lead Plastic Small Outline, Body 12.80 x 7.49 mm, Pitch 1.27 mm; Supplier 1: Digi-Key; Supplier Part Number 1: LT1794CSWTR-ND; Packing: Reel; Type: VFB; Mounting Technology: Surface Mount; ComponentLink1Description: Manufacturer URL; ComponentLink1URL: http://www.linear.com/; ComponentLink2Description: Datasheet; ComponentLink2URL: http://cds.linear.com/docs/en/datasheet/1794fs.pdf; ComponentLink3Description: Package Specification; ComponentLink3URL: http://cds.linear.com/docs/en/packaging/SO_16_05-08-1620.pdf
footprint LT-SW-20_N (SOIC, 20-Leads, Body 12.8x7.49mm, Pitch 1.27mm, IPC Medium Density)
footprint LT-SW-20_L (SOIC, 20-Leads, Body 12.8x7.49mm, Pitch 1.27mm, IPC High Density)
footprint LT-SW-20_M (SOIC, 20-Leads, Body 12.8x7.49mm, Pitch 1.27mm, IPC Low Density)
part A pins: 3 OUT (hiz), 8 -IN (in), 9 +IN (in), 10 SHDN (in)
part B pins: 11 SHDNREF (in), 12 +IN (in), 13 -IN (in), 18 OUT (hiz)
part C pins: 1 NC, 2 V+ (power), 4 V- (power), 5 V- (power), 6 V- (power), 7 V- (power), 14 V- (power), 15 V- (power), 16 V- (power), 17 V- (power), 19 V+ (power), 20 NC

## LT1794CSW#TRPBF
designator U?
Dual Channel, 500mA, 200MHz xDSL Line Driver Amplifier, 200 MHz Typical GBW, 600 V/us Typical SR, 8 to 36 V, 20-Pin SOIC (SW-20), Commercial, Pb-Free, Reel; Linear Technology Part Number: LT1794; Manufacturer: Linear Technology; PartNumber: LT1794CSW#TRPBF; Channels (#): 2; GBW (MHz) Typical: 200; Is (mA) Typical: 10; SR (V/us) Typical: 600; Vos (mV) Guaranteed: 5; Vos (mV) Typical: 1; Vs Max (V): 36; Vs Min (V): 8; PackageReference: LT-SW-20; PackageDescription: 20-Lead Plastic Small Outline, Body 12.80 x 7.49 mm, Pitch 1.27 mm; Supplier 1: Digi-Key; Supplier Part Number 1: LT1794CSW#TRPBF-ND; Packing: Reel; RoHS: Pb-Free; Type: VFB; Mounting Technology: Surface Mount; ComponentLink1Description: Manufacturer URL; ComponentLink1URL: http://www.linear.com/; ComponentLink2Description: Datasheet; ComponentLink2URL: http://cds.linear.com/docs/en/datasheet/1794fs.pdf; ComponentLink3Description: Package Specification; ComponentLink3URL: http://cds.linear.com/docs/en/packaging/SO_16_05-08-1620.pdf
footprint LT-SW-20_N (SOIC, 20-Leads, Body 12.8x7.49mm, Pitch 1.27mm, IPC Medium Density)
footprint LT-SW-20_L (SOIC, 20-Leads, Body 12.8x7.49mm, Pitch 1.27mm, IPC High Density)
footprint LT-SW-20_M (SOIC, 20-Leads, Body 12.8x7.49mm, Pitch 1.27mm, IPC Low Density)
part A pins: 3 OUT (hiz), 8 -IN (in), 9 +IN (in), 10 SHDN (in)
part B pins: 11 SHDNREF (in), 12 +IN (in), 13 -IN (in), 18 OUT (hiz)
part C pins: 1 NC, 2 V+ (power), 4 V- (power), 5 V- (power), 6 V- (power), 7 V- (power), 14 V- (power), 15 V- (power), 16 V- (power), 17 V- (power), 19 V+ (power), 20 NC

## LT1794IFE
designator U?
Dual Channel, 500mA, 200MHz xDSL Line Driver Amplifier, 200 MHz Typical GBW, 600 V/us Typical SR, 8 to 36 V, 20-Pin SOP (FE-20), Industrial; Linear Technology Part Number: LT1794; Manufacturer: Linear Technology; PartNumber: LT1794IFE; Channels (#): 2; GBW (MHz) Typical: 200; Is (mA) Typical: 10; SR (V/us) Typical: 600; Vos (mV) Guaranteed: 5; Vos (mV) Typical: 1; Vs Max (V): 36; Vs Min (V): 8; PackageVersion: Rev I; PackageReference: LT-FE-20-EPV-CA; PackageDescription: 20-Lead Plastic TSSOP, Body 6.50 x 4.40 mm, Pitch 0.65 mm; Supplier 1: Digi-Key; Supplier Part Number 1: LT1794IFE-ND; Type: VFB; Mounting Technology: Surface Mount; ComponentLink1Description: Manufacturer URL; ComponentLink1URL: http://www.linear.com/; ComponentLink2Description: Datasheet; ComponentLink2URL: http://cds.linear.com/docs/en/datasheet/1794fs.pdf; ComponentLink3Description: Package Specification; ComponentLink3URL: http://cds.linear.com/docs/en/packaging/05081663_I_FE20%28CA%29.pdf
footprint LT-FE-20-EPV-CA_N (SOP, 20-Leads, Body 6.5x4.4mm, Pitch 0.65mm, Thermal Pad 4.95 x 2.74mm, IPC Medium Density)
footprint LT-FE-20-EPV-CA_L (SOP, 20-Leads, Body 6.5x4.4mm, Pitch 0.65mm, Thermal Pad 4.95 x 2.74mm, IPC High Density)
footprint LT-FE-20-EPV-CA_M (SOP, 20-Leads, Body 6.5x4.4mm, Pitch 0.65mm, Thermal Pad 4.95 x2.74mm, IPC Low Density)
pins: 1 V- (power), 2 NC, 3 -IN (in), 4 +IN (in), 5 SHDN (in), 6 SHDNREF (in), 7 +IN (in), 8 -IN (in), 9 NC, 10 V- (power), 11 V- (power), 12 NC, 13 OUT (hiz), 14 V+ (power), 15 NC, 16 NC, 17 V+ (power), 18 OUT (hiz), 19 NC, 20 V- (power), 21 EP (power)

## LT1794IFE#PBF
designator U?
Dual Channel, 500mA, 200MHz xDSL Line Driver Amplifier, 200 MHz Typical GBW, 600 V/us Typical SR, 8 to 36 V, 20-Pin SOP (FE-20), Industrial, Pb-Free; Linear Technology Part Number: LT1794; Manufacturer: Linear Technology; PartNumber: LT1794IFE#PBF; Channels (#): 2; GBW (MHz) Typical: 200; Is (mA) Typical: 10; SR (V/us) Typical: 600; Vos (mV) Guaranteed: 5; Vos (mV) Typical: 1; Vs Max (V): 36; Vs Min (V): 8; PackageVersion: Rev I; PackageReference: LT-FE-20-EPV-CA; PackageDescription: 20-Lead Plastic TSSOP, Body 6.50 x 4.40 mm, Pitch 0.65 mm; Supplier 1: Digi-Key; Supplier Part Number 1: LT1794IFE#PBF-ND; Supplier 2: Farnell; Supplier Part Number 2: 2254809; Supplier 3: Newark; Supplier Part Number 3: 57M6679; RoHS: Pb-Free; Type: VFB; Mounting Technology: Surface Mount; ComponentLink1Description: Manufacturer URL; ComponentLink1URL: http://www.linear.com/; ComponentLink2Description: Datasheet; ComponentLink2URL: http://cds.linear.com/docs/en/datasheet/1794fs.pdf; ComponentLink3Description: Package Specification; ComponentLink3URL: http://cds.linear.com/docs/en/packaging/05081663_I_FE20%28CA%29.pdf
footprint LT-FE-20-EPV-CA_N (SOP, 20-Leads, Body 6.5x4.4mm, Pitch 0.65mm, Thermal Pad 4.95 x 2.74mm, IPC Medium Density)
footprint LT-FE-20-EPV-CA_L (SOP, 20-Leads, Body 6.5x4.4mm, Pitch 0.65mm, Thermal Pad 4.95 x 2.74mm, IPC High Density)
footprint LT-FE-20-EPV-CA_M (SOP, 20-Leads, Body 6.5x4.4mm, Pitch 0.65mm, Thermal Pad 4.95 x2.74mm, IPC Low Density)
pins: 1 V- (power), 2 NC, 3 -IN (in), 4 +IN (in), 5 SHDN (in), 6 SHDNREF (in), 7 +IN (in), 8 -IN (in), 9 NC, 10 V- (power), 11 V- (power), 12 NC, 13 OUT (hiz), 14 V+ (power), 15 NC, 16 NC, 17 V+ (power), 18 OUT (hiz), 19 NC, 20 V- (power), 21 EP (power)

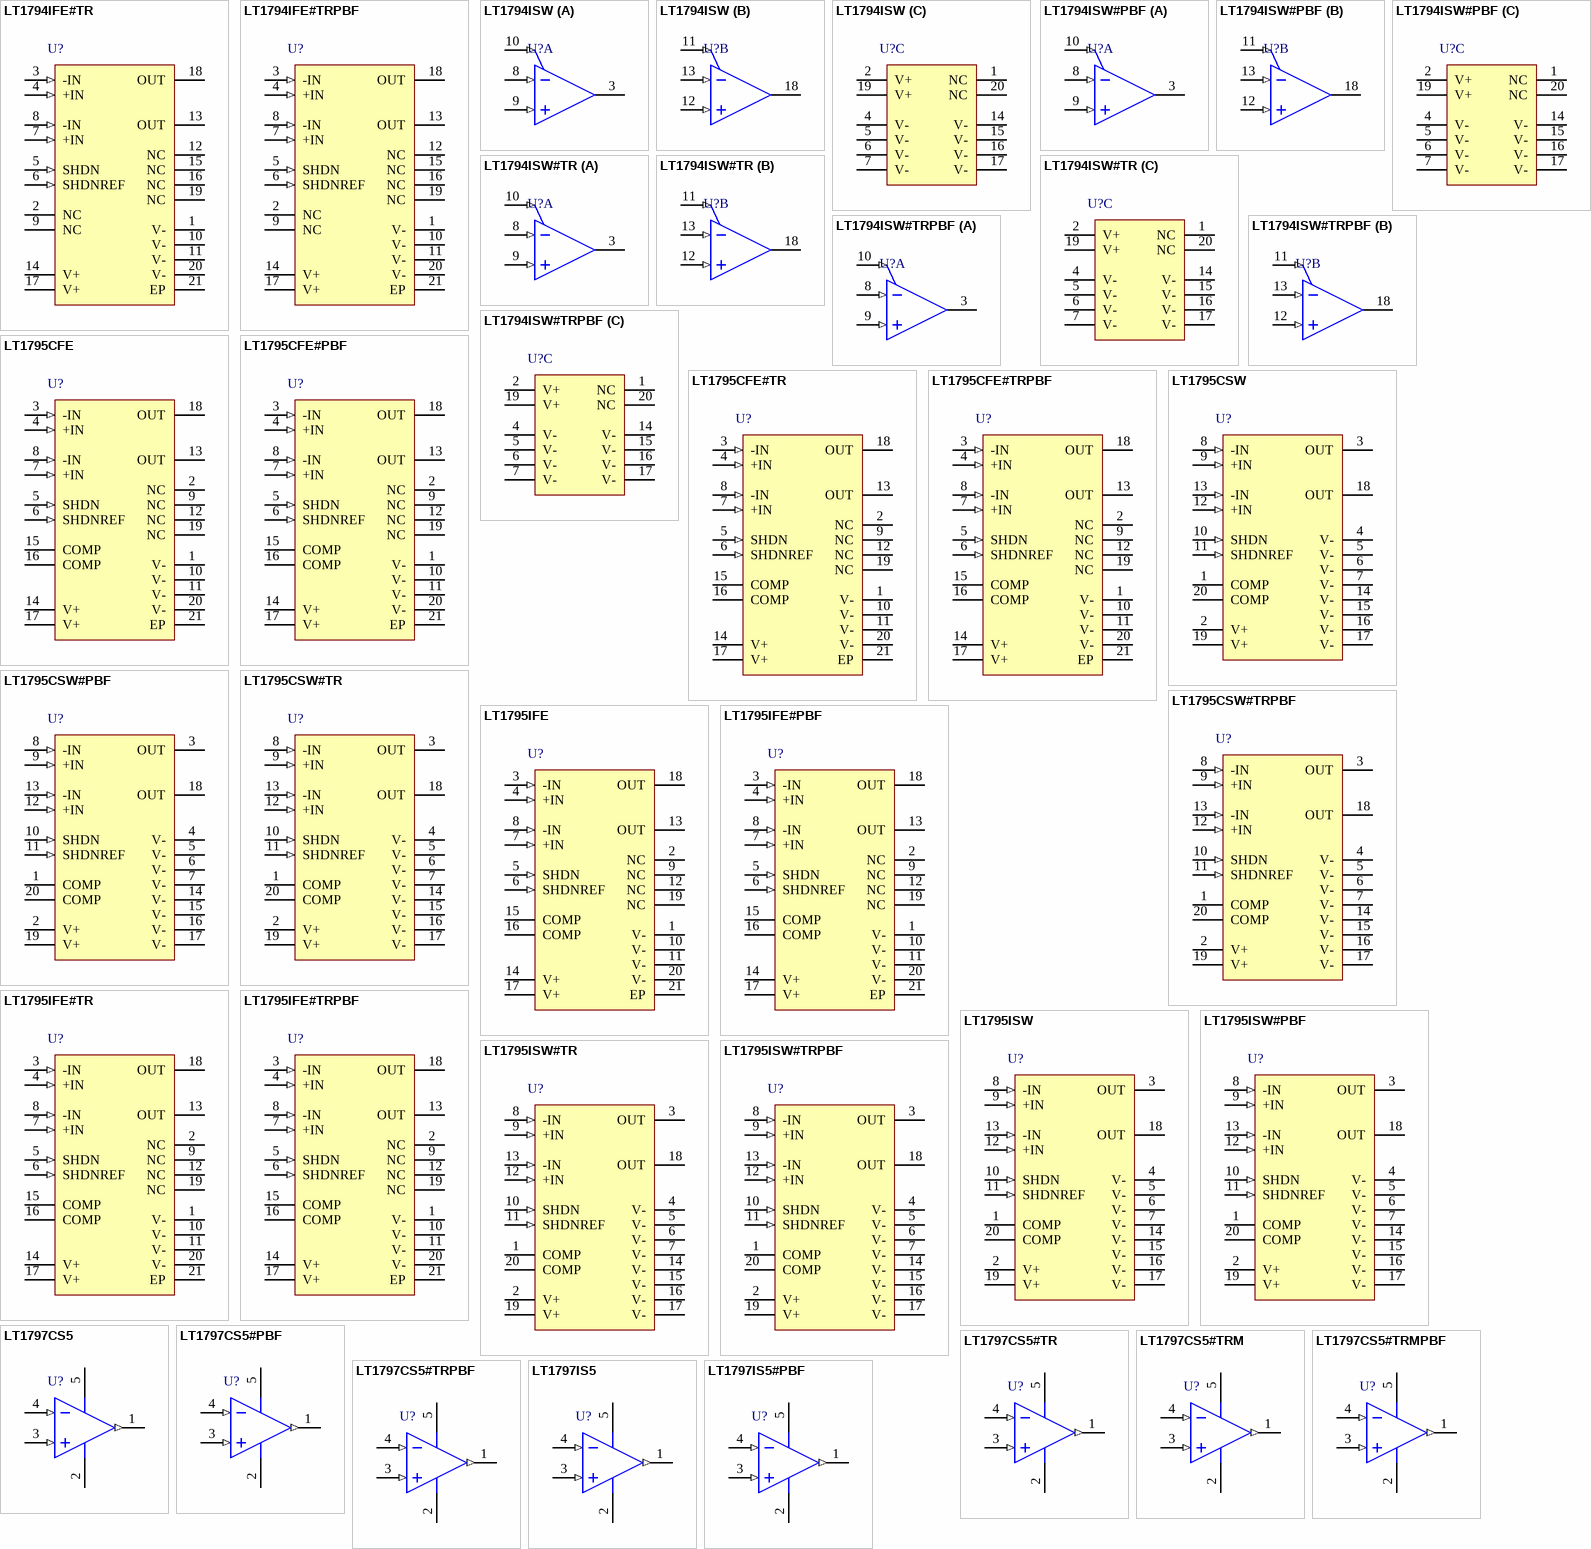
[diagram p74: symbols LT1794IFE#TR to LT1797IS5#PBF]

## LT1794IFE#TR
designator U?
Dual Channel, 500mA, 200MHz xDSL Line Driver Amplifier, 200 MHz Typical GBW, 600 V/us Typical SR, 8 to 36 V, 20-Pin SOP (FE-20), Industrial, Reel; Linear Technology Part Number: LT1794; Manufacturer: Linear Technology; PartNumber: LT1794IFE#TR; Channels (#): 2; GBW (MHz) Typical: 200; Is (mA) Typical: 10; SR (V/us) Typical: 600; Vos (mV) Guaranteed: 5; Vos (mV) Typical: 1; Vs Max (V): 36; Vs Min (V): 8; PackageVersion: Rev I; PackageReference: LT-FE-20-EPV-CA; PackageDescription: 20-Lead Plastic TSSOP, Body 6.50 x 4.40 mm, Pitch 0.65 mm; Supplier 1: Digi-Key; Supplier Part Number 1: LT1794IFETR-ND; Supplier 2: Newark; Supplier Part Number 2: 57M6680; Packing: Reel; Type: VFB; Mounting Technology: Surface Mount; ComponentLink1Description: Manufacturer URL; ComponentLink1URL: http://www.linear.com/; ComponentLink2Description: Datasheet; ComponentLink2URL: http://cds.linear.com/docs/en/datasheet/1794fs.pdf; ComponentLink3Description: Package Specification; ComponentLink3URL: http://cds.linear.com/docs/en/packaging/05081663_I_FE20%28CA%29.pdf
footprint LT-FE-20-EPV-CA_N (SOP, 20-Leads, Body 6.5x4.4mm, Pitch 0.65mm, Thermal Pad 4.95 x 2.74mm, IPC Medium Density)
footprint LT-FE-20-EPV-CA_L (SOP, 20-Leads, Body 6.5x4.4mm, Pitch 0.65mm, Thermal Pad 4.95 x 2.74mm, IPC High Density)
footprint LT-FE-20-EPV-CA_M (SOP, 20-Leads, Body 6.5x4.4mm, Pitch 0.65mm, Thermal Pad 4.95 x2.74mm, IPC Low Density)
pins: 1 V- (power), 2 NC, 3 -IN (in), 4 +IN (in), 5 SHDN (in), 6 SHDNREF (in), 7 +IN (in), 8 -IN (in), 9 NC, 10 V- (power), 11 V- (power), 12 NC, 13 OUT (hiz), 14 V+ (power), 15 NC, 16 NC, 17 V+ (power), 18 OUT (hiz), 19 NC, 20 V- (power), 21 EP (power)

## LT1794IFE#TRPBF
designator U?
Dual Channel, 500mA, 200MHz xDSL Line Driver Amplifier, 200 MHz Typical GBW, 600 V/us Typical SR, 8 to 36 V, 20-Pin SOP (FE-20), Industrial, Pb-Free, Reel; Linear Technology Part Number: LT1794; Manufacturer: Linear Technology; PartNumber: LT1794IFE#TRPBF; Channels (#): 2; GBW (MHz) Typical: 200; Is (mA) Typical: 10; SR (V/us) Typical: 600; Vos (mV) Guaranteed: 5; Vos (mV) Typical: 1; Vs Max (V): 36; Vs Min (V): 8; PackageVersion: Rev I; PackageReference: LT-FE-20-EPV-CA; PackageDescription: 20-Lead Plastic TSSOP, Body 6.50 x 4.40 mm, Pitch 0.65 mm; Supplier 1: Digi-Key; Supplier Part Number 1: LT1794IFE#TRPBF-ND; Packing: Reel; RoHS: Pb-Free; Type: VFB; Mounting Technology: Surface Mount; ComponentLink1Description: Manufacturer URL; ComponentLink1URL: http://www.linear.com/; ComponentLink2Description: Datasheet; ComponentLink2URL: http://cds.linear.com/docs/en/datasheet/1794fs.pdf; ComponentLink3Description: Package Specification; ComponentLink3URL: http://cds.linear.com/docs/en/packaging/05081663_I_FE20%28CA%29.pdf
footprint LT-FE-20-EPV-CA_N (SOP, 20-Leads, Body 6.5x4.4mm, Pitch 0.65mm, Thermal Pad 4.95 x 2.74mm, IPC Medium Density)
footprint LT-FE-20-EPV-CA_L (SOP, 20-Leads, Body 6.5x4.4mm, Pitch 0.65mm, Thermal Pad 4.95 x 2.74mm, IPC High Density)
footprint LT-FE-20-EPV-CA_M (SOP, 20-Leads, Body 6.5x4.4mm, Pitch 0.65mm, Thermal Pad 4.95 x2.74mm, IPC Low Density)
pins: 1 V- (power), 2 NC, 3 -IN (in), 4 +IN (in), 5 SHDN (in), 6 SHDNREF (in), 7 +IN (in), 8 -IN (in), 9 NC, 10 V- (power), 11 V- (power), 12 NC, 13 OUT (hiz), 14 V+ (power), 15 NC, 16 NC, 17 V+ (power), 18 OUT (hiz), 19 NC, 20 V- (power), 21 EP (power)

## LT1794ISW
designator U?
Dual Channel, 500mA, 200MHz xDSL Line Driver Amplifier, 200 MHz Typical GBW, 600 V/us Typical SR, 8 to 36 V, 20-Pin SOIC (SW-20), Industrial; Linear Technology Part Number: LT1794; Manufacturer: Linear Technology; PartNumber: LT1794ISW; Channels (#): 2; GBW (MHz) Typical: 200; Is (mA) Typical: 10; SR (V/us) Typical: 600; Vos (mV) Guaranteed: 5; Vos (mV) Typical: 1; Vs Max (V): 36; Vs Min (V): 8; PackageReference: LT-SW-20; PackageDescription: 20-Lead Plastic Small Outline, Body 12.80 x 7.49 mm, Pitch 1.27 mm; Supplier 1: Digi-Key; Supplier Part Number 1: LT1794ISW-ND; Type: VFB; Mounting Technology: Surface Mount; ComponentLink1Description: Manufacturer URL; ComponentLink1URL: http://www.linear.com/; ComponentLink2Description: Datasheet; ComponentLink2URL: http://cds.linear.com/docs/en/datasheet/1794fs.pdf; ComponentLink3Description: Package Specification; ComponentLink3URL: http://cds.linear.com/docs/en/packaging/SO_16_05-08-1620.pdf
footprint LT-SW-20_N (SOIC, 20-Leads, Body 12.8x7.49mm, Pitch 1.27mm, IPC Medium Density)
footprint LT-SW-20_L (SOIC, 20-Leads, Body 12.8x7.49mm, Pitch 1.27mm, IPC High Density)
footprint LT-SW-20_M (SOIC, 20-Leads, Body 12.8x7.49mm, Pitch 1.27mm, IPC Low Density)
part A pins: 3 OUT (hiz), 8 -IN (in), 9 +IN (in), 10 SHDN (in)
part B pins: 11 SHDNREF (in), 12 +IN (in), 13 -IN (in), 18 OUT (hiz)
part C pins: 1 NC, 2 V+ (power), 4 V- (power), 5 V- (power), 6 V- (power), 7 V- (power), 14 V- (power), 15 V- (power), 16 V- (power), 17 V- (power), 19 V+ (power), 20 NC

## LT1794ISW#PBF
designator U?
Dual Channel, 500mA, 200MHz xDSL Line Driver Amplifier, 200 MHz Typical GBW, 600 V/us Typical SR, 8 to 36 V, 20-Pin SOIC (SW-20), Industrial, Pb-Free; Linear Technology Part Number: LT1794; Manufacturer: Linear Technology; PartNumber: LT1794ISW#PBF; Channels (#): 2; GBW (MHz) Typical: 200; Is (mA) Typical: 10; SR (V/us) Typical: 600; Vos (mV) Guaranteed: 5; Vos (mV) Typical: 1; Vs Max (V): 36; Vs Min (V): 8; PackageReference: LT-SW-20; PackageDescription: 20-Lead Plastic Small Outline, Body 12.80 x 7.49 mm, Pitch 1.27 mm; Supplier 1: Digi-Key; Supplier Part Number 1: LT1794ISW#PBF-ND; RoHS: Pb-Free; Type: VFB; Mounting Technology: Surface Mount; ComponentLink1Description: Manufacturer URL; ComponentLink1URL: http://www.linear.com/; ComponentLink2Description: Datasheet; ComponentLink2URL: http://cds.linear.com/docs/en/datasheet/1794fs.pdf; ComponentLink3Description: Package Specification; ComponentLink3URL: http://cds.linear.com/docs/en/packaging/SO_16_05-08-1620.pdf
footprint LT-SW-20_N (SOIC, 20-Leads, Body 12.8x7.49mm, Pitch 1.27mm, IPC Medium Density)
footprint LT-SW-20_L (SOIC, 20-Leads, Body 12.8x7.49mm, Pitch 1.27mm, IPC High Density)
footprint LT-SW-20_M (SOIC, 20-Leads, Body 12.8x7.49mm, Pitch 1.27mm, IPC Low Density)
part A pins: 3 OUT (hiz), 8 -IN (in), 9 +IN (in), 10 SHDN (in)
part B pins: 11 SHDNREF (in), 12 +IN (in), 13 -IN (in), 18 OUT (hiz)
part C pins: 1 NC, 2 V+ (power), 4 V- (power), 5 V- (power), 6 V- (power), 7 V- (power), 14 V- (power), 15 V- (power), 16 V- (power), 17 V- (power), 19 V+ (power), 20 NC

## LT1794ISW#TR
designator U?
Dual Channel, 500mA, 200MHz xDSL Line Driver Amplifier, 200 MHz Typical GBW, 600 V/us Typical SR, 8 to 36 V, 20-Pin SOIC (SW-20), Industrial, Reel; Linear Technology Part Number: LT1794; Manufacturer: Linear Technology; PartNumber: LT1794ISW#TR; Channels (#): 2; GBW (MHz) Typical: 200; Is (mA) Typical: 10; SR (V/us) Typical: 600; Vos (mV) Guaranteed: 5; Vos (mV) Typical: 1; Vs Max (V): 36; Vs Min (V): 8; PackageReference: LT-SW-20; PackageDescription: 20-Lead Plastic Small Outline, Body 12.80 x 7.49 mm, Pitch 1.27 mm; Supplier 1: Digi-Key; Supplier Part Number 1: LT1794ISWTR-ND; Packing: Reel; Type: VFB; Mounting Technology: Surface Mount; ComponentLink1Description: Manufacturer URL; ComponentLink1URL: http://www.linear.com/; ComponentLink2Description: Datasheet; ComponentLink2URL: http://cds.linear.com/docs/en/datasheet/1794fs.pdf; ComponentLink3Description: Package Specification; ComponentLink3URL: http://cds.linear.com/docs/en/packaging/SO_16_05-08-1620.pdf
footprint LT-SW-20_N (SOIC, 20-Leads, Body 12.8x7.49mm, Pitch 1.27mm, IPC Medium Density)
footprint LT-SW-20_L (SOIC, 20-Leads, Body 12.8x7.49mm, Pitch 1.27mm, IPC High Density)
footprint LT-SW-20_M (SOIC, 20-Leads, Body 12.8x7.49mm, Pitch 1.27mm, IPC Low Density)
part A pins: 3 OUT (hiz), 8 -IN (in), 9 +IN (in), 10 SHDN (in)
part B pins: 11 SHDNREF (in), 12 +IN (in), 13 -IN (in), 18 OUT (hiz)
part C pins: 1 NC, 2 V+ (power), 4 V- (power), 5 V- (power), 6 V- (power), 7 V- (power), 14 V- (power), 15 V- (power), 16 V- (power), 17 V- (power), 19 V+ (power), 20 NC

## LT1794ISW#TRPBF
designator U?
Dual Channel, 500mA, 200MHz xDSL Line Driver Amplifier, 200 MHz Typical GBW, 600 V/us Typical SR, 8 to 36 V, 20-Pin SOIC (SW-20), Industrial, Pb-Free, Reel; Linear Technology Part Number: LT1794; Manufacturer: Linear Technology; PartNumber: LT1794ISW#TRPBF; Channels (#): 2; GBW (MHz) Typical: 200; Is (mA) Typical: 10; SR (V/us) Typical: 600; Vos (mV) Guaranteed: 5; Vos (mV) Typical: 1; Vs Max (V): 36; Vs Min (V): 8; PackageReference: LT-SW-20; PackageDescription: 20-Lead Plastic Small Outline, Body 12.80 x 7.49 mm, Pitch 1.27 mm; Supplier 1: Digi-Key; Supplier Part Number 1: LT1794ISW#TRPBF-ND; Packing: Reel; RoHS: Pb-Free; Type: VFB; Mounting Technology: Surface Mount; ComponentLink1Description: Manufacturer URL; ComponentLink1URL: http://www.linear.com/; ComponentLink2Description: Datasheet; ComponentLink2URL: http://cds.linear.com/docs/en/datasheet/1794fs.pdf; ComponentLink3Description: Package Specification; ComponentLink3URL: http://cds.linear.com/docs/en/packaging/SO_16_05-08-1620.pdf
footprint LT-SW-20_N (SOIC, 20-Leads, Body 12.8x7.49mm, Pitch 1.27mm, IPC Medium Density)
footprint LT-SW-20_L (SOIC, 20-Leads, Body 12.8x7.49mm, Pitch 1.27mm, IPC High Density)
footprint LT-SW-20_M (SOIC, 20-Leads, Body 12.8x7.49mm, Pitch 1.27mm, IPC Low Density)
part A pins: 3 OUT (hiz), 8 -IN (in), 9 +IN (in), 10 SHDN (in)
part B pins: 11 SHDNREF (in), 12 +IN (in), 13 -IN (in), 18 OUT (hiz)
part C pins: 1 NC, 2 V+ (power), 4 V- (power), 5 V- (power), 6 V- (power), 7 V- (power), 14 V- (power), 15 V- (power), 16 V- (power), 17 V- (power), 19 V+ (power), 20 NC